# Altium schematic symbol library L-Inductor_Choke.SCHLIB: 8 symbols
Pins are listed as number, name and electrical type; pins without a type are passive.

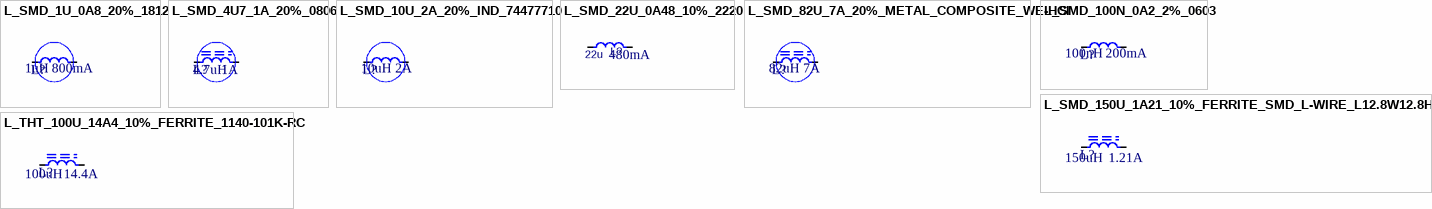
[diagram p0: symbols L_SMD_1U_0A8_20%_1812 to L_THT_100U_14A4_10%_FERRITE_1140-101K-RC]

## L_SMD_1U_0A8_20%_1812
designator L?  value 1uH  Value2: 800mA  (hidden comment: L_SMD_1U_0A8_20%_1812)
SMD Coil; Supplier - Digikey: 445-6464-1-ND
footprint SMD_1812
pins: 1, 2

## L_SMD_4U7_1A_20%_0806
designator L?  value 4.7uH  Value2: 1A  (hidden comment: L_SMD_4U7_1A_20%_0806)
SMD Inductor; Supplier - Digikey: 732-2956-1-ND
footprint SMD_0806
pins: 1, 2

## L_SMD_10U_2A_20%_IND_74477710
designator L?  value 10uH  Value2: 2A  (hidden comment: L_SMD_10U_2A_20%_IND_74477710)
SMD Inductor; Supplier - Digikey: 732-1200-1-ND; Type: 74477710
footprint SMD_INDUCT_74477710
pins: 1, 2

## L_SMD_22U_0A48_10%_2220
designator L?  value 22u  Value2: 480mA  (hidden comment: L_SMD_22U_0A48_10%_2220)
Inductor; Supplier - Digikey: 445-3535-1-ND
footprint SMD_INDUCT_5.6-5
pins: 1, 2

## L_SMD_82U_7A_20%_METAL_COMPOSITE_WE-HCI
designator L?  value 82uH  Value2: 7A  (hidden comment: L_SMD_82U_7A_20%_METAL_COMPOSITE_WE-HCI)
SMD IHigh Current nductor; Type: WE-HCI Series; Supplier - Digikey: 732-4241-1-ND
footprint SMD_INDUCT_WE-HCI
pins: 1, 2

## L_SMD_100N_0A2_2%_0603
designator L?  value 100nH  Value2: 200mA  (hidden comment: L_SMD_100N_0A2_2%_0603)
Non-magnetic-core; Supplier - Digikey: PCD2014CT-ND
footprint SMD_0603
pins: 1, 2

## L_SMD_150U_1A21_10%_FERRITE_SMD_L-WIRE_L12.8W12.8H7.85
designator L?  value 150uH  Value2: 1.21A  (hidden comment: L_SMD_150U_1A21_10%_FERRITE_SMD_L-WIRE_L12.8W12.8H7.85)
SMD Coil; Supplier - E+H-flowtec SAP: 71022840
footprint L-WIRE_L12.8W12.8H7.85
pins: 1, 2

## L_THT_100U_14A4_10%_FERRITE_1140-101K-RC
designator L?  value 100uH  Value2: 14.4A  (hidden comment: L_THT_100U_14A4_10%_FERRITE_1140-101K-RC)
THT Coil; Type: 1140-101K-RC; Supplier - Digikey: M8377-ND
footprint THT_COIL_1140-101K-RC
pins: 1, 2